# Altium schematic symbol library CDSOD323-T24LC.Schlib: 1 symbol
Pins are listed as number, name and electrical type; pins without a type are passive.

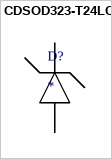
[diagram p0: symbol CDSOD323-T24LC]

## CDSOD323-T24LC
designator D?
18.3V (Typ) Clamp 15A (8/20Âµs) Ipp Tvs Diode Surface Mount SOD-323
pins: 1 C, 2 A